# EAGLE library part SENSE1-WIREBOND-VLAQC-TEST1 (library meng)
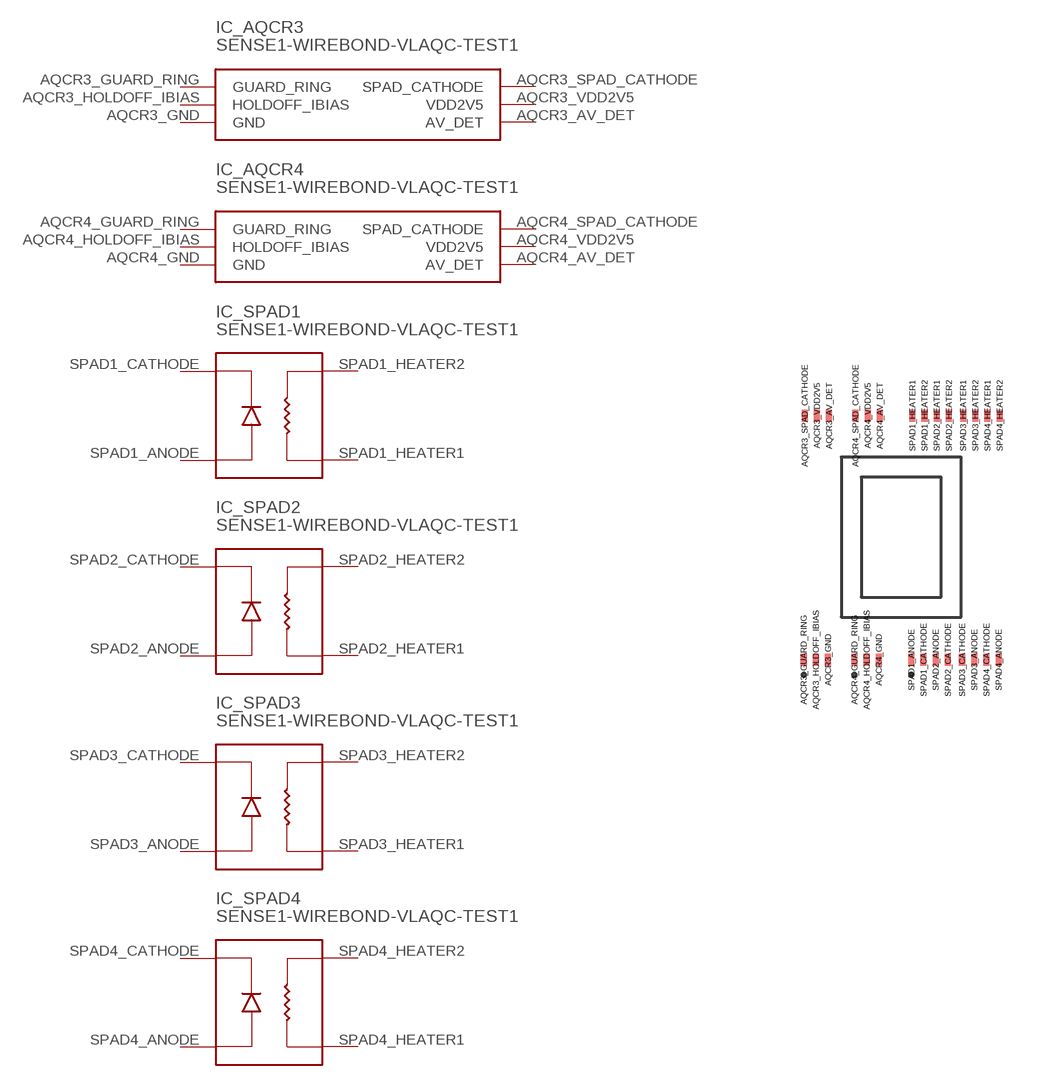
[diagram p23: symbol with the pads of SENSE1-WIREBOND-VLAQC-TEST1; footprint SENSE1-WIREBOND-VLAQC-TEST1]

Designator prefix IC; gates _AQCR3=SENSE1_AQC_REV3/4 _AQCR4=SENSE1_AQC_REV3/4 _SPAD1=SENSE1-SPAD-WITH-HEATER _SPAD2=SENSE1-SPAD-WITH-HEATER _SPAD3=SENSE1-SPAD-WITH-HEATER _SPAD4=SENSE1-SPAD-WITH-HEATER

## SENSE1-WIREBOND-VLAQC-TEST1 (VALUE: SENSE1)  [SENSE1-WIREBOND-VLAQC-TEST1]
AQCR3_AV_DET  _AQCR3:AV_DET
AQCR3_GND  _AQCR3:GND
AQCR3_GUARD_RING  _AQCR3:GUARD_RING
AQCR3_HOLDOFF_IBIAS  _AQCR3:HOLDOFF_IBIAS
AQCR3_SPAD_CATHODE  _AQCR3:SPAD_CATHODE
AQCR3_VDD2V5  _AQCR3:VDD2V5
AQCR4_AV_DET  _AQCR4:AV_DET
AQCR4_GND  _AQCR4:GND
AQCR4_GUARD_RING  _AQCR4:GUARD_RING
AQCR4_HOLDOFF_IBIAS  _AQCR4:HOLDOFF_IBIAS
AQCR4_SPAD_CATHODE  _AQCR4:SPAD_CATHODE
AQCR4_VDD2V5  _AQCR4:VDD2V5
SPAD1_ANODE  _SPAD1:SPAD_ANODE
SPAD1_CATHODE  _SPAD1:SPAD_CATHODE
SPAD1_HEATER1  _SPAD1:SPAD_HEATER1
SPAD1_HEATER2  _SPAD1:SPAD_HEATER2
SPAD2_ANODE  _SPAD2:SPAD_ANODE
SPAD2_CATHODE  _SPAD2:SPAD_CATHODE
SPAD2_HEATER1  _SPAD2:SPAD_HEATER1
SPAD2_HEATER2  _SPAD2:SPAD_HEATER2
SPAD3_ANODE  _SPAD3:SPAD_ANODE
SPAD3_CATHODE  _SPAD3:SPAD_CATHODE
SPAD3_HEATER1  _SPAD3:SPAD_HEATER1
SPAD3_HEATER2  _SPAD3:SPAD_HEATER2
SPAD4_ANODE  _SPAD4:SPAD_ANODE
SPAD4_CATHODE  _SPAD4:SPAD_CATHODE
SPAD4_HEATER1  _SPAD4:SPAD_HEATER1
SPAD4_HEATER2  _SPAD4:SPAD_HEATER2

## Footprint SENSE1-WIREBOND-VLAQC-TEST1 (pad centres in mm)
smd 0.152 x 0.305: AQCR3_AV_DET -1.803,3.039; AQCR3_GND -1.829,-3.064; AQCR3_GUARD_RING -2.438,-3.064; AQCR3_HOLDOFF_IBIAS -2.134,-3.064; AQCR3_SPAD_CATHODE -2.413,3.039; AQCR3_VDD2V5 -2.108,3.039; AQCR4_AV_DET -0.533,3.039; AQCR4_GND -0.559,-3.064; AQCR4_GUARD_RING -1.168,-3.064; AQCR4_HOLDOFF_IBIAS -0.864,-3.064; AQCR4_SPAD_CATHODE -1.143,3.039; AQCR4_VDD2V5 -0.838,3.039; SPAD1_ANODE 0.254,-3.064; SPAD1_CATHODE 0.559,-3.064; SPAD1_HEATER1 0.279,3.039; SPAD1_HEATER2 0.584,3.039; SPAD2_ANODE 0.864,-3.064; SPAD2_CATHODE 1.168,-3.064; SPAD2_HEATER1 0.889,3.039; SPAD2_HEATER2 1.194,3.039; SPAD3_ANODE 1.829,-3.064; SPAD3_CATHODE 1.524,-3.064; SPAD3_HEATER1 1.549,3.039; SPAD3_HEATER2 1.854,3.039; SPAD4_ANODE 2.438,-3.064; SPAD4_CATHODE 2.134,-3.064; SPAD4_HEATER1 2.159,3.039; SPAD4_HEATER2 2.464,3.039